# EAGLE library part WE-DS_212613023 (library Wurth_Elektronik_EMC_COMPONENTS_rev16c)
WE-DS D-SUB-Filter Solder Cup Characteristics Easy soldering, even for small strand cross sections Standard type filtered with 1000 pF High attenuation: max. ≥ 40 dB @ 180 MHz Choice of UNC 4/40 or through hole Rated voltage: 100 VDC Rated current @ 20 ºC: 5 A Withstand voltage: 250 VRMS Insulation resistance: min. 1000 MΩ Operating temperature: –55 ºC to +125 ºC Applications Filtering of interfaces External connection to -printer -sensor -display <http://katalog.we-online.de/media/images/v2/Family_d-sub_filter_mit_loetkelch.jpg> Details see: http://katalog.we-online.de/en/pbs/D-SUB-FILTER-SOLDER-CUP/210613023 2016 (C) Wurth Elektronik
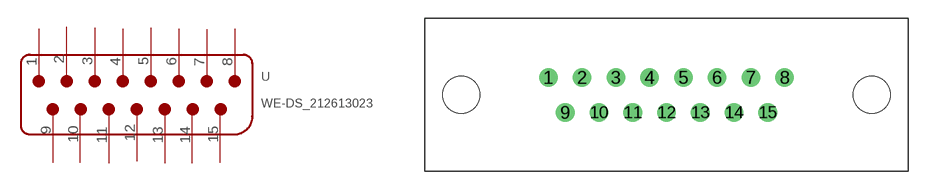
[diagram p243: symbol with the pads of WE-DS_2126130X3; footprint WE-DS_2126130X3]

Designator prefix -

## WE-DS_212613023  [WE-DS_2126130X3]
1  1
2  2
3  3
4  4
5  5
6  6
7  7
8  8
9  9
10  10
11  11
12  12
13  13
14  14
15  15

## Footprint WE-DS_2126130X3 (pad centres in mm)
drill 1: 1 -9.59,1.42; 2 -6.85,1.42; 3 -4.11,1.42; 4 -1.37,1.42; 5 1.37,1.42; 6 4.11,1.42; 7 6.85,1.42; 8 9.59,1.42; 9 -8.22,-1.42; 10 -5.48,-1.42; 11 -2.74,-1.42; 12 0,-1.42; 13 2.74,-1.42; 14 5.48,-1.42; 15 8.22,-1.42
hole 3 at -16.65,0
hole 3 at 16.65,0